# EAGLE library part LT1121CN8#PBF (library LT1121CN8#PBF)
Linear Technology LT1121CN8#PBF, LDO Voltage Regulator, Adjustable 150mA, 3.75 30 V, 8-Pin PDIP Source: Datasheet <https://www.arrow.com/en/products/lt1121cn8pbf/analog-devices?region=europe>
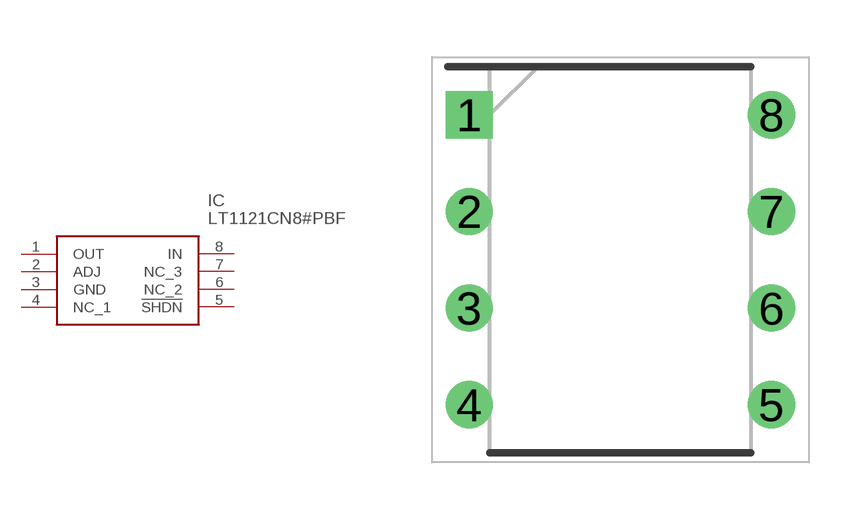
[diagram p0: symbol with the pads of DIP794W53P254L1016H394Q8N; footprint DIP794W53P254L1016H394Q8N]

Designator prefix IC

## LT1121CN8#PBF (Arrow_Part_Number: LT1121CN8#PBF; Arrow_Price-Stock: https://www.arrow.com/en/products/lt1121cn8pbf/analog-devices?region=europe; Description: Linear Technology LT1121CN8#PBF, LDO Voltage Regulator, Adjustable 150mA, 3.75 30 V, 8-Pin PDIP; Height: 3.937mm; Manufacturer_Name: Analog Devices; Manufacturer_Part_Number: LT1121CN8#PBF)  [DIP794W53P254L1016H394Q8N]
1  OUT
2  ADJ
3  GND
4  NC_1
5  !SHDN
6  NC_2
7  NC_3
8  IN

## Footprint DIP794W53P254L1016H394Q8N (pad centres in mm)
8-Lead PDIP
drill 0.733 pad 1.133 square: 1 -3.969,3.81
drill 0.733 pad 1.133: 2 -3.969,1.27; 3 -3.969,-1.27; 4 -3.969,-3.81; 5 3.969,-3.81; 6 3.969,-1.27; 7 3.969,1.27; 8 3.969,3.81